# Altium schematic symbol library 蜂鸣器.SchLib: 1 symbol
Pins are listed as number, name and electrical type; pins without a type are passive.

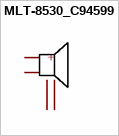
[diagram p0: symbol MLT-8530_C94599]

## MLT-8530_C94599
designator BUZZER??  (value not drawn)
Manufacturer: 华能; Add into BOM: yes; Oscillator Circuit: 无源(外部驱动); Technology Type: 电磁式; Operating Voltage: 2.5V~4.5V; Value: 2.7kHz; Sound Pressure Level (SPL): 80dB@5V,10cm; Symbol: MLT-8530; Device: MLT-8530_C94599; LCSC Part Name: MLT-8530; Supplier Part: C94599; Manufacturer Part: MLT-8530; Supplier Footprint: SMD,8.5x8.5mm; JLCPCB Part Class: Extended Part; Datasheet: https://atta.szlcsc.com/upload/public/pdf/source/20170522/1495448322339.pdf; Supplier: LCSC; Convert to PCB: yes; Length: 8.5mm; Width: 8.5mm; Height: 3.3mm
footprint BUZ-SMD_4P-L8.5-W8.5-P8.50-BR
pins: 1 +, 2, 3, 4